# Altium footprint library Rich Footprints.PcbLib: 155 footprints (part 4 of 10)
Each footprint in its own frame and in the unit in brackets; x right, y up, seen from the top. Pads: shape width x height; smd on the part's side, far side on the other; paste and mask are expansions set on the pad; w line width, h text height; cw(c..) or ccw(c..) is an arc to the next point about the centre after c.
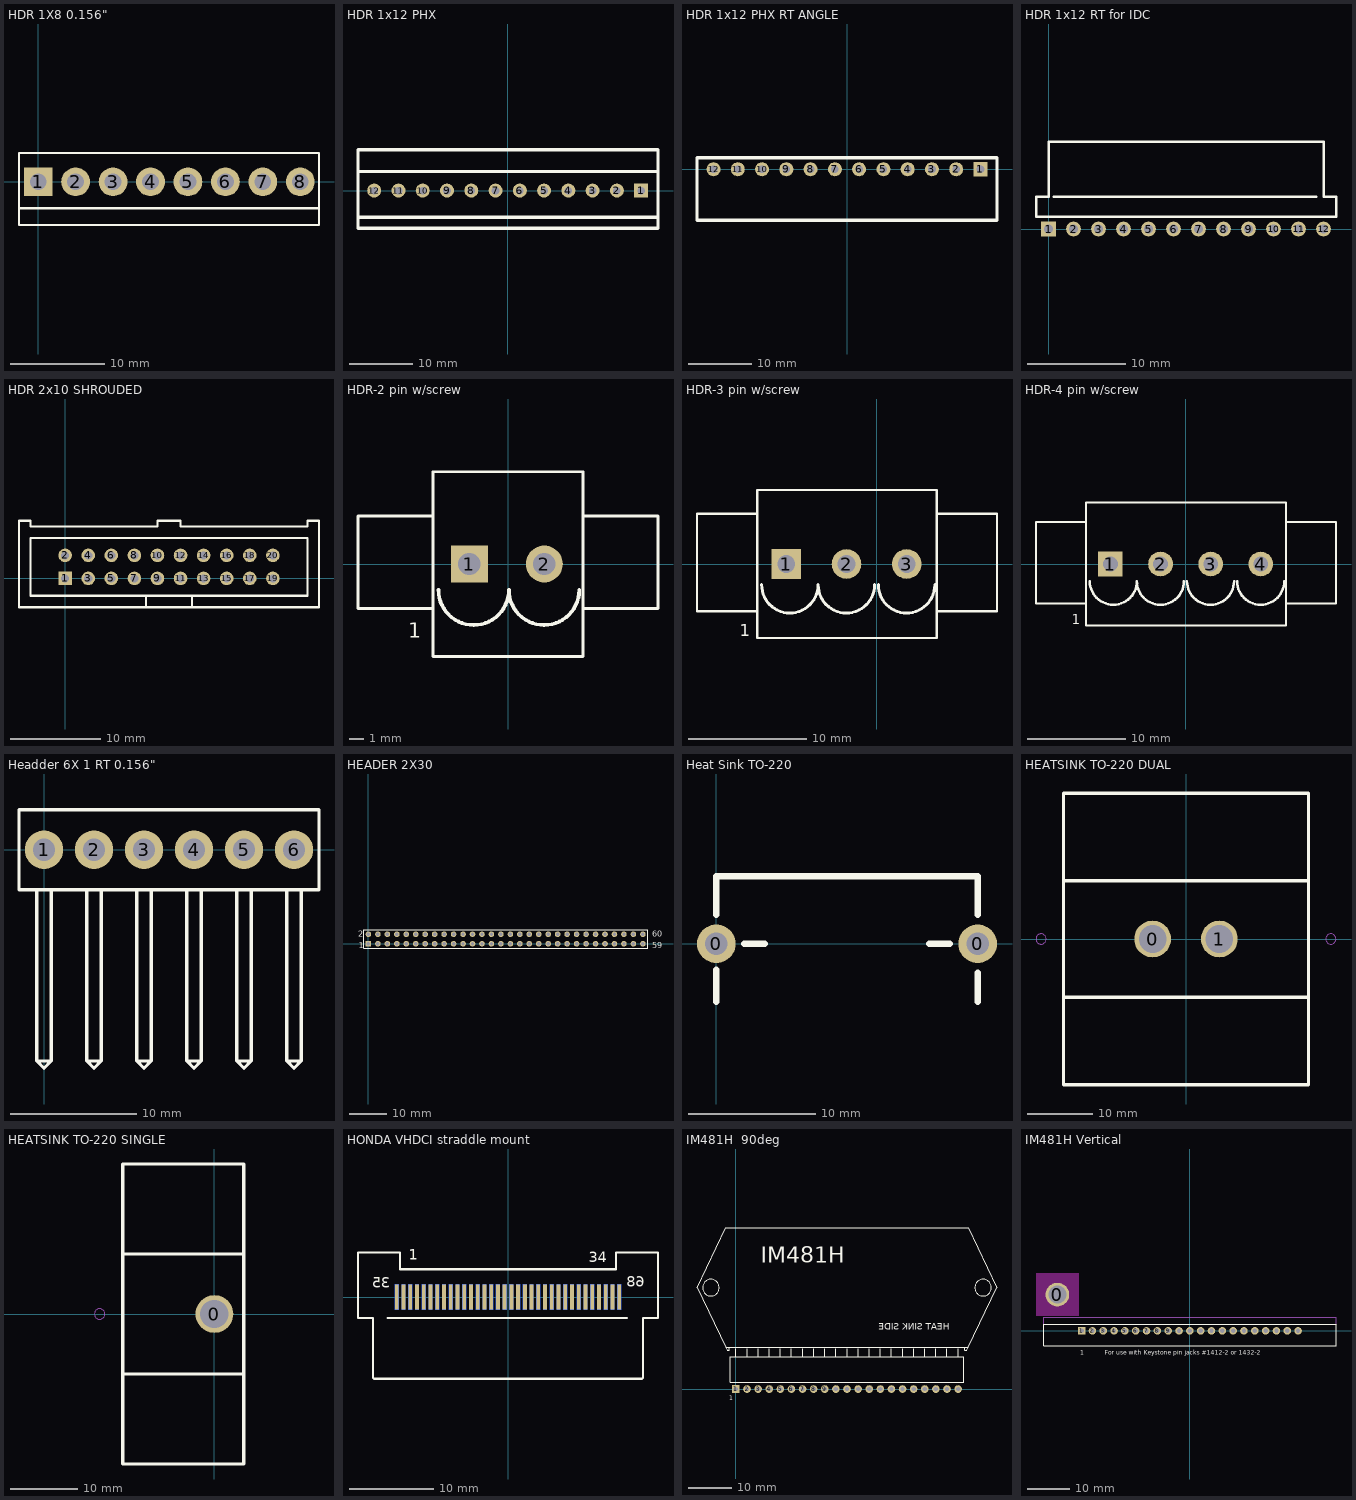
[diagram p3: the footprints below, top view; thin cyan lines are the x and y axes]

## HDR 1X8 0.156" [mil] "Connector; Header; 8 Position"
pads (8):
  rect 120x120 hole 70: 1(0,0)
  round 120 hole 70: 2(156,0) 3(312,0) 4(468,0) 5(624,0) 6(780,0) 7(936,0) 8(1092,0)
Top Overlay:
  lines w10: -80,-110 1138,-110 1170,-110 ; -80,-180 0,-180 1170,-180 1170,0 1170,120 -80,120 -80,-180

## HDR 1x12 PHX [mm] "PHOENIX MCV 1,5/12-G-3,81"
pads (12):
  rect 2.2x2.2 hole 1.2: 1(20.955,0)
  round 2.2 hole 1.2: 2(17.145,0) 3(13.335,0) 4(9.525,0) 5(5.715,0) 6(1.905,0) 7(-1.905,0) 8(-5.715,0) 9(-9.525,0) 10(-13.335,0) 11(-17.145,0) 12(-20.955,0)
Top Overlay:
  lines w0.508: -23.5,-4.2 0,-4.2 23.6,-4.2 ; -23.5,3 0,3 23.6,3 ; -23.5,-5.9 23.6,-5.9 23.6,6.4 0,6.4 -23.5,6.4 -23.5,-5.9

## HDR 1x12 PHX RT ANGLE [mm] "PHOENIX MCV 1,5/12-G-3,81"
pads (12):
  rect 2.2x2.2 hole 1.2: 1(20.955,0)
  round 2.2 hole 1.2: 2(17.145,0) 3(13.335,0) 4(9.525,0) 5(5.715,0) 6(1.905,0) 7(-1.905,0) 8(-5.715,0) 9(-9.525,0) 10(-13.335,0) 11(-17.145,0) 12(-20.955,0)
Top Overlay:
  lines w0.508: -23.55,-8 0,-8 23.55,-8 23.55,1.8 -23.55,1.8 -23.55,-8

## HDR 1x12 RT for IDC [mm]
pads (12):
  rect 1.5x1.5 hole 0.9: 1(0,0)
  round 1.5 hole 0.9: 2(2.54,0) 3(5.08,0) 4(7.62,0) 5(10.16,0) 6(12.7,0) 7(15.24,0) 8(17.78,0) 9(20.32,0) 10(22.86,0) 11(25.4,0) 12(27.94,0)
Top Overlay:
  lines w0.254: 0.508,3.302 27.178,3.302 ; -1.27,1.27 -1.27,3.302 0,3.302 0,8.89 27.94,8.89 27.94,3.302 29.21,3.302 29.21,1.27 17.78,1.27 -1.27,1.27

## HDR 2x10 SHROUDED [mm] "Samtec p/n TST-110-01-L-D"
pads (20):
  rect 1.5x1.5 hole 0.9: 1(0,0)
  round 1.5 hole 0.9: 2(0,2.54) 3(2.54,0) 4(2.54,2.54) 5(5.08,0) 6(5.08,2.54) 7(7.62,0) 8(7.62,2.54) 9(10.16,0) 10(10.16,2.54) 11(12.7,0) 12(12.7,2.54) 13(15.24,0) 14(15.24,2.54) 15(17.78,0) 16(17.78,2.54) 17(20.32,0) 18(20.32,2.54) 19(22.86,0) 20(22.86,2.54)
Top Overlay:
  lines w0.254: 8.89,-3.175 8.89,-1.905 ; 13.97,-3.175 13.97,-1.905 ; -5.08,-3.175 -5.08,5.715 -5.08,6.35 -3.81,6.35 -3.81,5.715 0,5.715 10.16,5.715 10.16,6.35 12.7,6.35 12.7,5.715 26.67,5.715 26.67,6.35 27.94,6.35 27.94,5.715 27.94,-3.175 -5.08,-3.175 ; -3.81,-1.905 -3.81,4.445 0,4.445 26.67,4.445 26.67,-1.905 -3.81,-1.905

## HDR-2 pin w/screw [mm] "TYCO p/n 796867-2"
pads (2):
  rect 2.5x2.5 hole 1.5: 1(-2.62,0)
  round 2.5 hole 1.5: 2(2.46,0)
Top Overlay:
  lines w0.2: -5.08,-3 -10.16,-3 -10.16,3.25 -5.08,3.25 ; 5.08,-3 10.16,-3 10.16,3.25 5.08,3.25 ; -5.08,-6.25 -5.08,6.25 5.08,6.25 5.08,-6.25 -5.08,-6.25
  lines w0.254: -4.709,-1.75 ccw(c-2.324,-1.75) 0.061,-1.75 ccw(c2.445,-1.75) 4.83,-1.75
  text "1" at -6.75,-5 h1.02

## HDR-3 pin w/screw [mm] "TYCO p/n 796867-3"
pads (3):
  rect 2.5x2.5 hole 1.5: 1(-7.62,0)
  round 2.5 hole 1.5: 2(-2.54,0) 3(2.54,0)
Top Overlay:
  lines w0.2: -10.08,-4 -15.16,-4 -15.16,4.25 -10.08,4.25 ; 5.08,-4 10.16,-4 10.16,4.25 5.08,4.25 ; -10.08,-6.25 5.08,-6.25 5.08,6.25 -10.08,6.25 -10.08,-6.25
  lines w0.254: -9.709,-1.75 ccw(c-7.324,-1.75) -4.939,-1.75 ccw(c-2.555,-1.75) -0.17,-1.75 ; 0.141,-1.75 ccw(c2.525,-1.75) 4.91,-1.75
  text "1" at -11.557,-6.096 h1.02

## HDR-4 pin w/screw [mm] "TYCO p/n 796867-4"
pads (4):
  rect 2.5x2.5 hole 1.5: 1(-7.62,0)
  round 2.5 hole 1.5: 2(-2.54,0) 3(2.54,0) 4(7.62,0)
Top Overlay:
  lines w0.2: -10.08,-4 -15.16,-4 -15.16,4.25 -10.08,4.25 ; 10.16,-4 15.24,-4 15.24,4.25 10.16,4.25 ; -10.08,-6.25 10.16,-6.25 10.16,6.25 -10.08,6.25 -10.08,-6.25
  lines w0.254: -9.709,-1.75 ccw(c-7.324,-1.75) -4.939,-1.75 ccw(c-2.555,-1.75) -0.17,-1.75 ; 0.141,-1.75 ccw(c2.525,-1.75) 4.91,-1.75 ; 5.221,-1.75 ccw(c7.605,-1.75) 9.99,-1.75
  text "1" at -11.557,-6.096 h1.02

## Headder 6X 1 RT 0.156" [mil] "SAMTEC FWJ-06-04-T-S"
pads (6):
  round 120 hole 69: 1(0,0) 2(156,0) 3(312,0) 4(468,0) 5(624,0) 6(780,0)
Top Overlay:
  lines w10: -78,0 -78,100 ; -22.5,-125 -22.5,-659 ; -18,-659 -22.5,-659 ; 22.5,-125 22.5,-659 ; 133.5,-125 133.5,-659 ; 138,-659 133.5,-659 ; 178.5,-125 178.5,-659 ; 289.5,-125 289.5,-659 ; 294,-659 289.5,-659 ; 334.5,-125 334.5,-659 ; 445.5,-125 445.5,-659 ; 450,-659 445.5,-659 ; 490.5,-125 490.5,-659 ; 601.5,-125 601.5,-659 ; 606,-659 601.5,-659 ; 646.5,-125 646.5,-659 ; 757.5,-125 757.5,-659 ; 762,-659 757.5,-659 ; 802.5,-125 802.5,-659 ; -22.5,-659 22.5,-659 ; -22.5,-659 0,-681.5 ; 0,-681.5 0,-682 0,-681.5 ; 0,-681.5 22.5,-659 ; 133.5,-659 156,-681.5 ; 133.5,-659 178.5,-659 ; 156,-681.5 178.5,-659 ; 156,-681.5 156,-682 156,-681.5 ; 289.5,-659 312,-681.5 ; 289.5,-659 334.5,-659 ; 312,-681.5 334.5,-659 ; 312,-681.5 312,-682 312,-681.5 ; 445.5,-659 468,-681.5 ; 445.5,-659 490.5,-659 ; 468,-681.5 490.5,-659 ; 468,-681.5 468,-682 468,-681.5 ; 601.5,-659 624,-681.5 ; 601.5,-659 646.5,-659 ; 624,-681.5 646.5,-659 ; 624,-681.5 624,-682 624,-681.5 ; 757.5,-659 780,-681.5 ; 757.5,-659 802.5,-659 ; 780,-681.5 802.5,-659 ; 780,-681.5 780,-682 780,-681.5 ; -78,-125 858,-125 858,125 -78,125 -78,-125

## HEADER 2X30 [mm] "0.1\" SPACING"
pads (60):
  rect 1.5x1.5 hole 0.9: 1(0,0)
  round 1.5 hole 0.9: 2(0,2.54) 3(2.54,0) 4(2.54,2.54) 5(5.08,0) 6(5.08,2.54) 7(7.62,0) 8(7.62,2.54) 9(10.16,0) 10(10.16,2.54) 11(12.7,0) 12(12.7,2.54) 13(15.24,0) 14(15.24,2.54) 15(17.78,0) 16(17.78,2.54) 17(20.32,0) 18(20.32,2.54) 19(22.86,0) 20(22.86,2.54) 21(25.4,0) 22(25.4,2.54) 23(27.94,0) 24(27.94,2.54) 25(30.48,0) 26(30.48,2.54) 27(33.02,0) 28(33.02,2.54) 29(35.56,0) 30(35.56,2.54) 31(38.1,0) 32(38.1,2.54) 33(40.64,0) 34(40.64,2.54) 35(43.18,0) 36(43.18,2.54) 37(45.72,0) 38(45.72,2.54) 39(48.26,0) 40(48.26,2.54) 41(50.8,0) 42(50.8,2.54) 43(53.34,0) 44(53.34,2.54) 45(55.88,0) 46(55.88,2.54) 47(58.42,0) 48(58.42,2.54) 49(60.96,0) 50(60.96,2.54) 51(63.5,0) 52(63.5,2.54) 53(66.04,0) 54(66.04,2.54) 55(68.58,0) 56(68.58,2.54) 57(71.12,0) 58(71.12,2.54) 59(73.66,0) 60(73.66,2.54)
Top Overlay:
  lines w0.254: -1.27,-1.27 -1.27,3.81 74.93,3.81 74.93,-1.27 -1.27,-1.27
  text "1" at -2.54,-1.27 h1.52
  text "2" at -2.794,1.905 h1.52
  text "59" at 76.2,-1.27 h1.52
  text "60" at 76.2,1.905 h1.52

## Heat Sink TO-220 [mil] "Avvid 574502b03700"
height 750
pads (2):
  round 120 hole 70: 0(0,0) 0(810,0)
Top Overlay:
  lines w20: 0,-180 0,-80 ; 0,90 0,210 810,210 810,90 ; 86.61,0 150,0 ; 659.84,0 723.23,0 ; 810,-180 810,-90

## HEATSINK TO-220 DUAL [mm] "AAVID 507102B00000G"
pads (2):
  round 5.6 hole 4.22 paste-0.152 mask-0.089: 0(-5.08,0) 1(5.08,0)
Top Overlay:
  lines w0.508: -18.669,-8.89 18.669,-8.89 ; -18.669,8.89 18.669,8.89 ; -18.669,-22.225 -18.669,22.225 18.669,22.225 18.669,-22.225 -18.669,-22.225
Mechanical 13:
  circle w0.127: c22.08,0 r0.78
  circle w0.127: c-22.08,0 r0.78

## HEATSINK TO-220 SINGLE [mm] "AAVID 507002B00000G"
pads (1):
  round 5.6 hole 4.22 paste-0.152 mask-0.089: 0(0,0)
Top Overlay:
  lines w0.508: -13.589,-8.89 4.318,-8.89 ; -13.589,8.89 4.318,8.89 ; 4.318,-22.225 -13.589,-22.225 -13.589,22.225 4.318,22.225 ; 4.318,-22.22 4.318,22.22
Mechanical 13:
  circle w0.127: c-17,0 r0.78

## HONDA VHDCI straddle mount [mm] "68 pin VHDCI male straddle mount"
pads (68):
  rect 0.45x3 smd far side: 0(-2,0) 35(-13.2,0) 36(-12.4,0) 37(-11.6,0) 38(-10.8,0) 39(-10,0) 40(-9.2,0) 41(-8.4,0) 42(-7.6,0) 43(-6.8,0) 44(-6,0) 45(-5.2,0) 46(-4.4,0) 47(-3.6,0) 48(-2.8,0) 50(-1.2,0) 51(-0.4,0) 52(0.4,0) 53(1.2,0) 54(2,0) 55(2.8,0) 56(3.6,0) 57(4.4,0) 58(5.2,0) 59(6,0) 60(6.8,0) 61(7.6,0) 62(8.4,0) 63(9.2,0) 64(10,0) 65(10.8,0) 66(11.6,0) 67(12.4,0) 68(13.2,0)
  rect 0.45x3 smd: 1(-13.2,0) 2(-12.4,0) 3(-11.6,0) 4(-10.8,0) 5(-10,0) 6(-9.2,0) 7(-8.4,0) 8(-7.6,0) 9(-6.8,0) 10(-6,0) 11(-5.2,0) 12(-4.4,0) 13(-3.6,0) 14(-2.8,0) 15(-2,0) 16(-1.2,0) 17(-0.4,0) 18(0.4,0) 19(1.2,0) 20(2,0) 21(2.8,0) 22(3.6,0) 23(4.4,0) 24(5.2,0) 25(6,0) 26(6.8,0) 27(7.6,0) 28(8.4,0) 29(9.2,0) 30(10,0) 31(10.8,0) 32(11.6,0) 33(12.4,0) 34(13.2,0)
Top Overlay:
  lines w0.254: -16,-9.6 -16,-2.5 -17.8,-2.5 -17.8,5.3 -12.8,5.3 -12.8,3.3 0,3.3 12.8,3.3 12.8,5.3 17.8,5.3 17.8,-2.5 16,-2.5 16,-9.6 15.9,-9.7 0,-9.7 -15.9,-9.7 ; -14.3,-2.5 14.1,-2.5
  text "34" at 9.6,4.1 h1.27
  text "1" at -11.8,4.4 h1.27
  text "68" at 16.2,1.2 h1.27
  text "35" at -14,1.1 h1.27

## IM481H  90deg [mm] "Stepper motor driver"
pads (21):
  rect 1.75x1.75 hole 1: 1(0,0)
  round 1.75 hole 1: 2(2.54,0) 3(5.08,0) 4(7.62,0) 5(10.16,0) 6(12.7,0) 7(15.24,0) 8(17.78,0) 9(20.32,0) 10(22.86,0) 11(25.4,0) 12(27.94,0) 13(30.48,0) 14(33.02,0) 15(35.56,0) 16(38.1,0) 17(40.64,0) 18(43.18,0) 19(45.72,0) 20(48.26,0) 21(50.8,0)
Top Overlay:
  circle w0.254: c-5.715,23.19 r1.905
  circle w0.254: c56.515,23.19 r1.905
  lines w0.25: -1.27,1.524 52.07,1.524 52.07,7.366 -1.27,7.366 -1.27,1.524
  lines w0.254: -1.524,9.525 -1.524,8.915 -2.032,8.915 -2.362,9.525 ; 2.54,7.315 2.54,9.22 ; 5.08,7.315 5.08,9.22 ; 7.62,7.315 7.62,9.22 ; 10.16,7.315 10.16,9.22 ; 12.7,7.315 12.7,9.22 ; 15.24,7.315 15.24,9.22 ; 17.78,7.315 17.78,9.22 ; 20.32,7.315 20.32,9.22 ; 22.86,7.315 22.86,9.22 ; 25.4,7.315 25.4,9.22 ; 27.94,7.315 27.94,9.22 ; 30.48,7.315 30.48,9.22 ; 33.02,7.315 33.02,9.22 ; 35.56,7.315 35.56,9.22 ; 38.1,7.315 38.1,9.22 ; 40.64,7.315 40.64,9.22 ; 43.18,7.315 43.18,9.22 ; 45.72,7.315 45.72,9.22 ; 48.26,7.315 48.26,9.22 ; 50.8,7.315 50.8,9.22 ; 52.324,9.525 52.324,8.915 52.832,8.915 53.162,9.525 ; -2.362,9.525 25.4,9.525 53.162,9.525 ; -2.362,9.525 -8.89,23.19 -2.362,36.855 25.4,36.855 53.162,36.855 59.69,23.19 53.162,9.525 ; 0,7.315 0,9.22 0,7.315
  text "1" at -1.524,-2.54 h1.02
  text "IM481H" at 5.715,27.635 h6.35
  text "HEAT SINK SIDE" at 48.895,13.03 h2.54

## IM481H Vertical [mil] "Stepper motor driver"
pads (22):
  round 218.9 hole 166.14: 0(-1224.41,334.65)
  rect 70x70 hole 40: 1(-1000,0)
  round 70 hole 40: 2(-900,0) 3(-800,0) 4(-700,0) 5(-600,0) 6(-500,0) 7(-400,0) 8(-300,0) 9(-200,0) 10(-100,0) 11(0,0) 12(100,0) 13(200,0) 14(300,0) 15(400,0) 16(500,0) 17(600,0) 18(700,0) 19(800,0) 20(900,0) 21(1000,0)
Top Layer keep-out:
  region: -1027.56,531.5 -1421.26,531.5 -1421.26,137.8 -1027.56,137.8 -1027.56,334.65
Top Overlay:
  lines w7.87: -1350.39,-137.8 -1350.39,59.06 1350.39,59.06 1350.39,-137.8 0,-137.8 -1350.39,-137.8
  text "1" at -1011.81,-220.47 h40
  text "For use with Keystone pin jacks #1412-2 or 1432-2" at -787.4,-220.47 h39.37
Mechanical 3:
  lines w7.87: -1350.39,59.06 -1350.39,125.98 1350.39,125.98 1350.39,59.06